# EAGLE library part M01X8 (library ihpcb-pin_header)
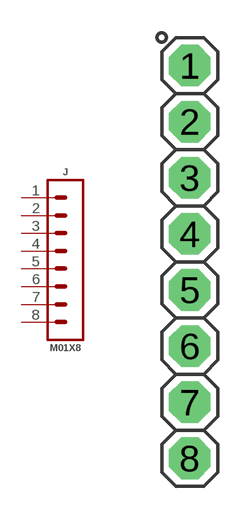
[diagram p3: symbol with the pads of H1X8_100_MIL; footprint H1X8_100_MIL]

Designator prefix J

## M01X8_TH  [H1X8_100_MIL]
1  1
2  2
3  3
4  4
5  5
6  6
7  7
8  8

## Footprint H1X8_100_MIL (pad centres in mm)
drill 1.016 pad 1.88 octagon: 1 0,10.16; 2 0,7.62; 3 0,5.08; 4 0,2.54; 5 0,0; 6 0,-2.54; 7 0,-5.08; 8 0,-7.62